# Altium footprint library Calibration_Scale.PcbLib: 19 footprints (part 2 of 2)
Each footprint in its own frame and in the unit in brackets; x right, y up, seen from the top. Pads: shape width x height; smd on the part's side, far side on the other; paste and mask are expansions set on the pad; w line width, h text height; cw(c..) or ccw(c..) is an arc to the next point about the centre after c.
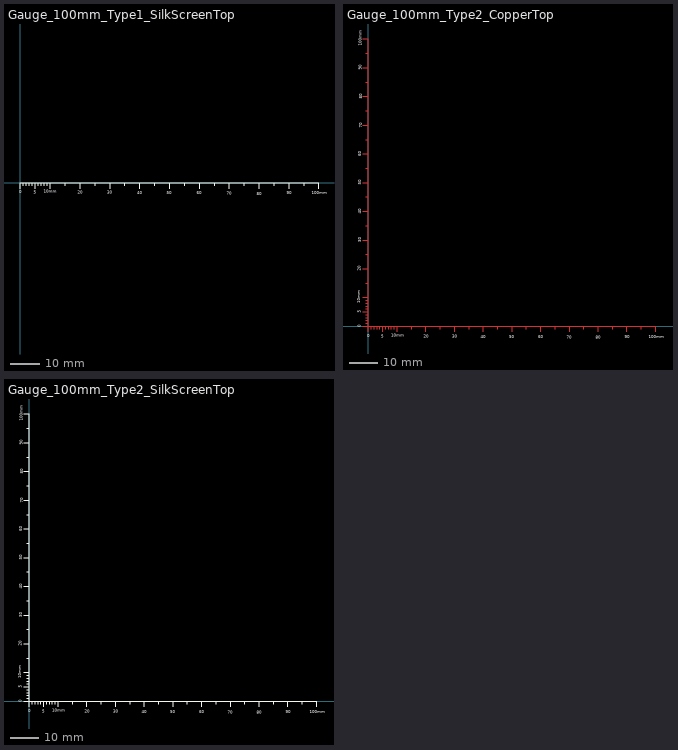
[diagram p1: the footprints below, top view; thin cyan lines are the x and y axes]

## Gauge_100mm_Type1_SilkScreenTop [mm]
F.SilkS:
  lines w0.254: 0,-1.999 0,0 10,0 ; 1.001,-1.001 1.001,0 ; 1.999,-1.001 1.999,0 ; 3,-1.001 3,0 ; 4,-1.001 4,0 ; 5.001,-1.999 5.001,0 ; 5.999,-1.001 5.999,0 ; 7,-1.001 7,0 ; 8.001,-1.001 8.001,0 ; 8.999,-1.001 8.999,0 ; 10,-1.999 10,0 ; 15.001,-1.001 15.001,0 ; 20,-1.999 20,0 ; 25.001,-1.001 25.001,0 ; 30,-1.999 30,0 ; 35.001,-1.001 35.001,0 ; 40,-1.999 40,0 ; 45.001,-1.001 45.001,0 ; 50,-1.999 50,0 ; 55.001,-1.001 55.001,0 ; 60,-1.999 60,0 ; 65.001,-1.001 65.001,0 ; 70,-1.999 70,0 ; 75.001,-1.001 75.001,0 ; 80,-1.999 80,0 ; 85.001,-1.001 85.001,0 ; 90,-1.999 90,0 ; 95.001,-1.001 95.001,0 ; 100,-1.999 100,0 10,0
  text "90" at 89.173,-3.853 h1
  text "40" at 39.072,-3.751 h1
  text "0" at -0.483,-3.449 h1
  text "10mm" at 7.834,-3.35 h1
  text "5" at 4.515,-3.551 h1
  text "20" at 19.171,-3.551 h1
  text "80" at 79.071,-4.051 h1
  text "50" at 49.071,-3.751 h1
  text "70" at 69.071,-3.952 h1
  text "100mm" at 97.49,-3.853 h1
  text "60" at 59.098,-3.751 h1
  text "30" at 29.072,-3.65 h1
Top Assembly:
  text "'.Designator'" at -4.047,2.159 h1
Top Designator:
  text ".Designator" at 41.565,-0.93 h1.52

## Gauge_100mm_Type2_CopperTop [mm]
F.Cu:
  lines w0.254: -1.999,0 0,0 ; -1.999,5.001 0,5.001 ; -1.999,10 0,10 ; -1.999,20 0,20 ; -1.999,30 0,30 ; -1.999,40 0,40 ; -1.999,50 0,50 ; -1.999,60 0,60 ; -1.999,70 0,70 ; -1.999,80 0,80 ; -1.999,90 0,90 ; -1.999,100 0,100 0,0 ; -1.001,1.001 0,1.001 ; -1.001,1.999 0,1.999 ; -1.001,3 0,3 ; -1.001,4 0,4 ; -1.001,5.999 0,5.999 ; -1.001,7 0,7 ; -1.001,8.001 0,8.001 ; -1.001,8.999 0,8.999 ; -1.001,15.001 0,15.001 ; -1.001,25.001 0,25.001 ; -1.001,35.001 0,35.001 ; -1.001,45.001 0,45.001 ; -1.001,55.001 0,55.001 ; -1.001,65.001 0,65.001 ; -1.001,75.001 0,75.001 ; -1.001,85.001 0,85.001 ; -1.001,95.001 0,95.001 ; 0,-1.999 0,0 ; 1.001,-1.001 1.001,0 ; 1.999,-1.001 1.999,0 ; 3,-1.001 3,0 ; 4,-1.001 4,0 ; 5.001,-1.999 5.001,0 ; 5.999,-1.001 5.999,0 ; 7,-1.001 7,0 ; 8.001,-1.001 8.001,0 ; 8.999,-1.001 8.999,0 ; 10,-1.999 10,0 ; 15.001,-1.001 15.001,0 ; 20,-1.999 20,0 ; 25.001,-1.001 25.001,0 ; 30,-1.999 30,0 ; 35.001,-1.001 35.001,0 ; 40,-1.999 40,0 ; 45.001,-1.001 45.001,0 ; 50,-1.999 50,0 ; 55.001,-1.001 55.001,0 ; 60,-1.999 60,0 ; 65.001,-1.001 65.001,0 ; 70,-1.999 70,0 ; 75.001,-1.001 75.001,0 ; 80,-1.999 80,0 ; 85.001,-1.001 85.001,0 ; 90,-1.999 90,0 ; 95.001,-1.001 95.001,0 ; 100,-1.999 100,0 10,0 ; 0,0 10,0
F.SilkS:
  text "50" at -2.451,49.176 h1
  text "30" at -2.553,29.176 h1
  text "5" at -2.652,4.62 h1
  text "60" at 59.103,-4.15 h1
  text "100mm" at -2.35,97.594 h1
  text "80" at -2.152,79.176 h1
  text "90" at 89.178,-4.252 h1
  text "90" at -2.35,89.277 h1
  text "40" at -2.451,39.176 h1
  text "0" at -0.478,-3.848 h1
  text "0" at -2.754,-0.379 h1
  text "20" at -2.652,19.275 h1
  text "20" at 19.176,-3.949 h1
  text "40" at 39.077,-4.15 h1
  text "80" at 79.077,-4.45 h1
  text "5" at 4.521,-3.949 h1
  text "50" at 49.077,-4.15 h1
  text "30" at 29.077,-4.048 h1
  text "10mm" at -2.853,7.938 h1
  text "100mm" at 97.495,-4.252 h1
  text "10mm" at 7.839,-3.749 h1
  text "70" at 69.077,-4.351 h1
  text "70" at -2.251,69.176 h1
  text "60" at -2.451,59.202 h1
Top Assembly:
  text "'.Designator'" at -0.046,-9.84 h1
Top Designator:
  text ".Designator" at 41.665,45.664 h1.52

## Gauge_100mm_Type2_SilkScreenTop [mm]
F.SilkS:
  lines w0.254: -1.999,0 0,0 ; -1.999,5.001 0,5.001 ; -1.999,10 0,10 ; -1.999,20 0,20 ; -1.999,30 0,30 ; -1.999,40 0,40 ; -1.999,50 0,50 ; -1.999,60 0,60 ; -1.999,70 0,70 ; -1.999,80 0,80 ; -1.999,90 0,90 ; -1.999,100 0,100 0,0 ; -1.001,1.001 0,1.001 ; -1.001,1.999 0,1.999 ; -1.001,3 0,3 ; -1.001,4 0,4 ; -1.001,5.999 0,5.999 ; -1.001,7 0,7 ; -1.001,8.001 0,8.001 ; -1.001,8.999 0,8.999 ; -1.001,15.001 0,15.001 ; -1.001,25.001 0,25.001 ; -1.001,35.001 0,35.001 ; -1.001,45.001 0,45.001 ; -1.001,55.001 0,55.001 ; -1.001,65.001 0,65.001 ; -1.001,75.001 0,75.001 ; -1.001,85.001 0,85.001 ; -1.001,95.001 0,95.001 ; 0,-1.999 0,0 ; 1.001,-1.001 1.001,0 ; 1.999,-1.001 1.999,0 ; 3,-1.001 3,0 ; 4,-1.001 4,0 ; 5.001,-1.999 5.001,0 ; 5.999,-1.001 5.999,0 ; 7,-1.001 7,0 ; 8.001,-1.001 8.001,0 ; 8.999,-1.001 8.999,0 ; 10,-1.999 10,0 ; 15.001,-1.001 15.001,0 ; 20,-1.999 20,0 ; 25.001,-1.001 25.001,0 ; 30,-1.999 30,0 ; 35.001,-1.001 35.001,0 ; 40,-1.999 40,0 ; 45.001,-1.001 45.001,0 ; 50,-1.999 50,0 ; 55.001,-1.001 55.001,0 ; 60,-1.999 60,0 ; 65.001,-1.001 65.001,0 ; 70,-1.999 70,0 ; 75.001,-1.001 75.001,0 ; 80,-1.999 80,0 ; 85.001,-1.001 85.001,0 ; 90,-1.999 90,0 ; 95.001,-1.001 95.001,0 ; 100,-1.999 100,0 10,0 ; 0,0 10,0
  text "0" at -2.754,-0.379 h1
  text "100mm" at 97.495,-4.252 h1
  text "50" at 49.077,-4.15 h1
  text "80" at 79.077,-4.45 h1
  text "70" at -2.251,69.176 h1
  text "30" at -2.553,29.176 h1
  text "60" at -2.451,59.202 h1
  text "90" at 89.178,-4.252 h1
  text "20" at -2.652,19.275 h1
  text "0" at -0.478,-3.848 h1
  text "40" at 39.077,-4.15 h1
  text "5" at 4.521,-3.949 h1
  text "90" at -2.35,89.277 h1
  text "70" at 69.077,-4.351 h1
  text "10mm" at -2.853,7.938 h1
  text "20" at 19.176,-3.949 h1
  text "30" at 29.077,-4.048 h1
  text "100mm" at -2.35,97.594 h1
  text "80" at -2.152,79.176 h1
  text "10mm" at 7.839,-3.749 h1
  text "50" at -2.451,49.176 h1
  text "40" at -2.451,39.176 h1
  text "5" at -2.652,4.62 h1
  text "60" at 59.103,-4.15 h1
Top Assembly:
  text "'.Designator'" at -0.046,-9.84 h1
Top Designator:
  text ".Designator" at 41.665,45.664 h1.52